# Altium footprint library resistor.PcbLib: 6 footprints
Each footprint in its own frame and in the unit in brackets; x right, y up, seen from the top. Pads: shape width x height; smd on the part's side, far side on the other; paste and mask are expansions set on the pad; w line width, h text height; cw(c..) or ccw(c..) is an arc to the next point about the centre after c.
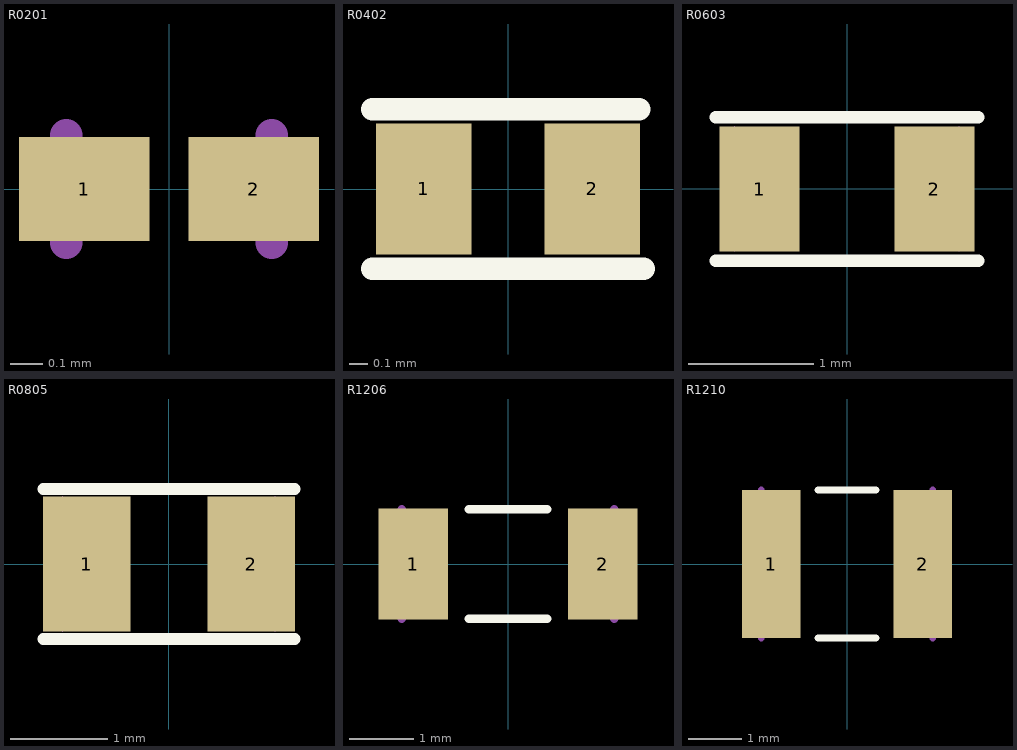
[diagram p0: the footprints below, top view; thin cyan lines are the x and y axes]

## R0201 [mm] "Chip Resistor, 2-Leads, Body 0.60x0.30mm, IPC High Density"
height 0.33
pads (2):
  rect 0.4x0.32 smd: 1(-0.26,0) 2(0.26,0)
Mechanical 13:
  lines w0.1: -0.315,-0.165 -0.315,0.165 ; 0.315,-0.165 0.315,0.165
3D body "RL73N1HR68FTD.STEP": height 0.29, standoff 0.01, extent -0.3,-0.15 0.3,0.15

## R0402 [mm]
pads (2):
  rect 0.51x0.7 smd mask+0.05: 1(-0.45,0) 2(0.45,0)
Top Overlay:
  lines w0.12: -0.725,-0.425 0.725,-0.425 ; -0.725,0.425 0.7,0.425
Mechanical 14:
  lines w0.01: -0.45,-0.3 -0.45,0.3 ; 0.45,-0.3 0.45,0.3
3D body "R0402.STEP": height 0.34, standoff 0, extent -0.52,-0.3 0.52,0.3
3D body: height 0.4, standoff 0, extent -0.455,-0.305 0.455,0.305

## R0603 [mm]
pads (2):
  rect 0.64x1 smd mask+0.05: 1(-0.7,0) 2(0.7,0)
Top Overlay:
  lines w0.1: -1.05,-0.575 1.05,-0.575 ; -1.05,0.575 1.05,0.575
Mechanical 14:
  lines w0.01: -0.9,-0.5 -0.9,0.5 ; 0.9,-0.5 0.9,0.5
3D body: height 0.55, standoff 0, extent -0.905,-0.505 0.905,0.505
3D body "R0603.STEP": height 0.56, standoff 0, extent -0.85,-0.4 0.85,0.4

## R0805 [mm]
pads (2):
  rect 0.9x1.4 smd mask+0.05: 1(-0.85,0) 2(0.85,0)
Top Overlay:
  lines w0.12: -1.3,-0.775 1.3,-0.775 ; -1.3,0.775 1.3,0.775
Mechanical 14:
  lines w0.01: -1.1,-0.7 -1.1,0.7 ; 1.1,-0.7 1.1,0.7
3D body "RN73C2A3K3BTDF.STEP": height 0.66, standoff 0.01, extent -1,-0.625 1,0.625

## R1206 [mm]
pads (2):
  rect 1.08x1.72 smd: 1(-1.47,0) 2(1.47,0)
Top Overlay:
  lines w0.127: -0.61,-0.85 0.61,-0.85 ; -0.61,0.85 0.61,0.85
Mechanical 13:
  lines w0.127: -1.65,-0.85 -1.65,0.85 ; 1.65,-0.85 1.65,0.85
3D body "step_temp.STEP": height 0.7, standoff 0, extent -1.6,-0.8 1.6,0.8

## R1210 [mm]
pads (2):
  rect 1.1x2.77 smd: 1(-1.413,0) 2(1.413,0)
Top Overlay:
  lines w0.127: -0.54,-1.38 0.54,-1.38 ; -0.54,1.38 0.54,1.38
Mechanical 13:
  lines w0.127: -1.6,-1.38 -1.6,1.38 ; 1.6,-1.38 1.6,1.38
3D body "step_temp.STEP": height 0.65, standoff 0, extent -1.55,-1.3 1.55,1.3